# Altium integrated library TI Power Management Lighting and Display.IntLib: 745 symbols (part 12 of 48)
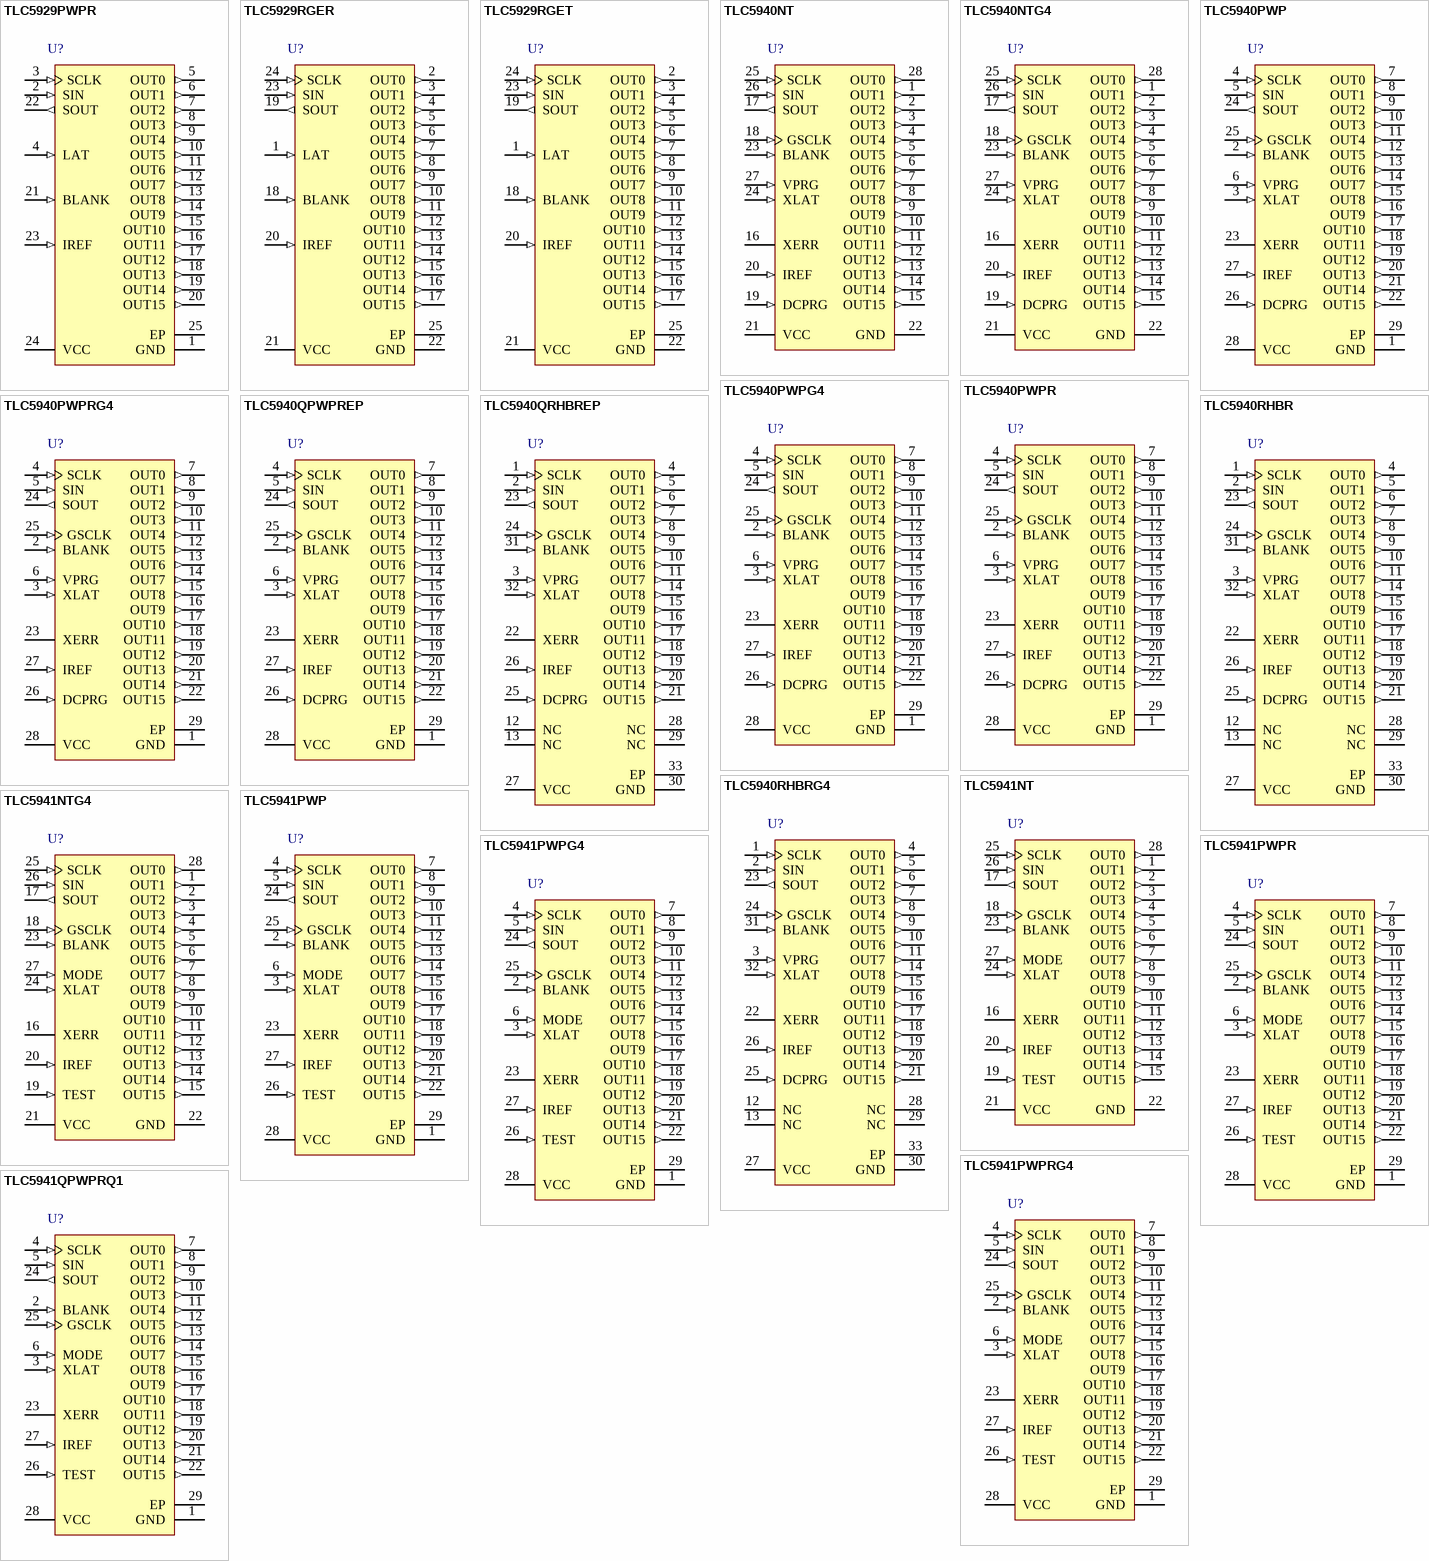
[diagram p42: symbols TLC5929PWPR to TLC5941QPWPRQ1]

## TLC5940QRHBREP
designator U?
Enhanced Product 16-Channel LED Driver with Dot Correction and Grayscale PWM Control, 3 to 5.5 V, -40 to 125 degC, 32-pin QFN (RHB32), Green (RoHS & no Sb/Br); Manufacturer: Texas Instruments; PartNumber: TLC5940QRHBREP; Rating: HiRel Enhanced Product; Vin(Max)(V): 5.5; Vin(Min)(V): 3; DatasheetVersion: SLVSA51D; PackageVersion: 4204326/D; PackageReference: RHB32-3150X3150TP; PackageDescription: 32-Pin Plastic Flat Pack, Body 5 x 5 mm, Pitch 0.5 mm; Supplier 1: Digi-Key; Supplier Part Number 1: 296-27434-2-ND; Supplier 2: Digi-Key; Supplier Part Number 2: 296-27434-1-ND; Supplier 3: Digi-Key; Supplier Part Number 3: 296-27434-6-ND; Supplier 4: Newark; Supplier Part Number 4: 79R8510; Supplier 5: Mouser; Supplier Part Number 5: 595-TLC5940QRHBREP; Eco-Plan: Green (RoHS & no Sb/Br); SubFamily: LED Driver; Mounting Technology: Surface Mount; Code_JEDEC: MO-220; ComponentLink1Description: Manufacturer URL; ComponentLink1URL: http://www.ti.com/; ComponentLink2Description: Datasheet; ComponentLink2URL: http://www.ti.com/general/docs/lit/getliterature.tsp?genericPartNumber=TLC5940-EP&fileType=pdf; ComponentLink3Description: Package Specification; ComponentLink3URL: http://www.ti.com/lit/ml/mpqf130c/mpqf130c.pdf
footprint TI-RHB32-3150X3150TP_V (QFN, 32-Leads, Body 5x5mm, Pitch 0.5mm, Thermal Pad 3.15x3.15mm)
pins: 1 SCLK (in) "Serial data shift clock", 2 SIN (in) "Serial data input", 3 VPRG (in) "Multifunction input pin. When VPRG = GND, the device is in GS mode. When VPRG = VCC, the device is in DC mode. When VPRG = V(VPRG), DC register data can programmed into DC EEPROM with DCPRG=HIGH. EEPROM data = 3Fh (default)", 4 OUT0 (out) "Constant current output", 5 OUT1 (out) "Constant current output", 6 OUT2 (out) "Constant current output", 7 OUT3 (out) "Constant current output", 8 OUT4 (out) "Constant current output", 9 OUT5 (out) "Constant current output", 10 OUT6 (out) "Constant current output", 11 OUT7 (out) "Constant current output", 12 NC "No connection", 13 NC "No connection", 14 OUT8 (out) "Constant current output", 15 OUT9 (out) "Constant current output", 16 OUT10 (out) "Constant current output", 17 OUT11 (out) "Constant current output", 18 OUT12 (out) "Constant current output", 19 OUT13 (out) "Constant current output", 20 OUT14 (out) "Constant current output", 21 OUT15 (out) "Constant current output", 22 XERR (hiz) "Error output. Open-drain output. XERR goes low when LOD or TEF is detected.", 23 SOUT (out) "Serial data output", 24 GSCLK (in) "Reference clock for Grayscale PWM control.", 25 DCPRG (in) "Switch DC data input. When DCPRG = L, DC is connected to EEPROM. When DCPRG = H, DC is connected to the DC register. DCPRG also controls EEPROM writing, when VPRG = V(PRG). EEPROM data = 3Fh (default)", 26 IREF (in) "This pin sets the constant current value. OUT0 through OUT15 sink constant current is set to desired value by connecting an external resistor between IREF and GND.", 27 VCC (power) "Power-supply voltage", 28 NC "No connection", 29 NC "No connection", 30 GND (power) "Ground", 31 BLANK (in) "Blank all outputs. When BLANK = H, all OUTn outputs are forced OFF. GS counter is also reset. When BLANK = L, OUTn are controlled by grayscale PWM control.", 32 XLAT (in) "Level triggered latch signal. When XLAT = high, the TLC5940 writes data from the input shift register to either GS register (VPRG = low) or DC register (VPRG = high). When XLAT = low, the data in GS or DC register is held (See Datasheet)", 33 EP

## TLC5940RHBR
designator U?
16-Channel LED Driver with EEprom DOT Correction & Grayscale PWM Control, 3 to 5.5 V, -40 to 85 degC, 32-pin QFN (RHB32), Green (RoHS & no Sb/Br); Manufacturer: Texas Instruments; PartNumber: TLC5940RHBR; Rating: Catalog; Vin(Max)(V): 5.5; Vin(Min)(V): 3; DatasheetVersion: SLVS515C; PackageVersion: 4204326/D; PackageReference: RHB32-3150X3150TP; PackageDescription: 32-Pin Plastic Flat Pack, Body 5 x 5 mm, Pitch 0.5 mm; Supplier 1: Digi-Key; Supplier Part Number 1: 296-21251-2-ND; Supplier 2: Digi-Key; Supplier Part Number 2: 296-21251-1-ND; Supplier 3: Digi-Key; Supplier Part Number 3: 296-21251-6-ND; Supplier 4: Newark; Supplier Part Number 4: 52K5899; Supplier 5: Mouser; Supplier Part Number 5: 595-TLC5940RHBR; Eco-Plan: Green (RoHS & no Sb/Br); SubFamily: LED Driver; Mounting Technology: Surface Mount; Code_JEDEC: MO-220; ComponentLink1Description: Manufacturer URL; ComponentLink1URL: http://www.ti.com/; ComponentLink2Description: Datasheet; ComponentLink2URL: http://www.ti.com/general/docs/lit/getliterature.tsp?genericPartNumber=TLC5940&fileType=pdf; ComponentLink3Description: Package Specification; ComponentLink3URL: http://www.ti.com/lit/ml/mpqf130c/mpqf130c.pdf
footprint TI-RHB32-3150X3150TP_V (QFN, 32-Leads, Body 5x5mm, Pitch 0.5mm, Thermal Pad 3.15x3.15mm)
pins: 1 SCLK (in) "Serial data shift clock", 2 SIN (in) "Serial data input", 3 VPRG (in) "Multifunction input pin. When VPRG = GND, the device is in GS mode. When VPRG = VCC, the device is in DC mode. When VPRG = V(VPRG), DC register data can programmed into DC EEPROM with DCPRG=HIGH. EEPROM data = 3Fh (default)", 4 OUT0 (out) "Constant current output", 5 OUT1 (out) "Constant current output", 6 OUT2 (out) "Constant current output", 7 OUT3 (out) "Constant current output", 8 OUT4 (out) "Constant current output", 9 OUT5 (out) "Constant current output", 10 OUT6 (out) "Constant current output", 11 OUT7 (out) "Constant current output", 12 NC "No connection", 13 NC "No connection", 14 OUT8 (out) "Constant current output", 15 OUT9 (out) "Constant current output", 16 OUT10 (out) "Constant current output", 17 OUT11 (out) "Constant current output", 18 OUT12 (out) "Constant current output", 19 OUT13 (out) "Constant current output", 20 OUT14 (out) "Constant current output", 21 OUT15 (out) "Constant current output", 22 XERR (hiz) "Error output. Open-drain output. XERR goes low when LOD or TEF is detected.", 23 SOUT (out) "Serial data output", 24 GSCLK (in) "Reference clock for Grayscale PWM control.", 25 DCPRG (in) "Switch DC data input. When DCPRG = L, DC is connected to EEPROM. When DCPRG = H, DC is connected to the DC register. DCPRG also controls EEPROM writing, when VPRG = V(PRG). EEPROM data = 3Fh (default)", 26 IREF (in) "This pin sets the constant current value. OUT0 through OUT15 sink constant current is set to desired value by connecting an external resistor between IREF and GND.", 27 VCC (power) "Power-supply voltage", 28 NC "No connection", 29 NC "No connection", 30 GND (power) "Ground", 31 BLANK (in) "Blank all outputs. When BLANK = H, all OUTn outputs are forced OFF. GS counter is also reset. When BLANK = L, OUTn are controlled by grayscale PWM control.", 32 XLAT (in) "Level triggered latch signal. When XLAT = high, the TLC5940 writes data from the input shift register to either GS register (VPRG = low) or DC register (VPRG = high). When XLAT = low, the data in GS or DC register is held (See Datasheet)", 33 EP

## TLC5940RHBRG4
designator U?
16-Channel LED Driver with EEprom DOT Correction & Grayscale PWM Control, 3 to 5.5 V, -40 to 85 degC, 32-pin QFN (RHB32), Green (RoHS & no Sb/Br); Manufacturer: Texas Instruments; PartNumber: TLC5940RHBRG4; Rating: Catalog; Vin(Max)(V): 5.5; Vin(Min)(V): 3; DatasheetVersion: SLVS515C; PackageVersion: 4204326/D; PackageReference: RHB32-3150X3150TP; PackageDescription: 32-Pin Plastic Flat Pack, Body 5 x 5 mm, Pitch 0.5 mm; Supplier 1: Digi-Key; Supplier Part Number 1: TLC5940RHBRG4-ND; Supplier 2: Newark; Supplier Part Number 2: 54K1023; Supplier 3: Mouser; Supplier Part Number 3: 595-TLC5940RHBRG4; Eco-Plan: Green (RoHS & no Sb/Br); SubFamily: LED Driver; Mounting Technology: Surface Mount; Code_JEDEC: MO-220; ComponentLink1Description: Manufacturer URL; ComponentLink1URL: http://www.ti.com/; ComponentLink2Description: Datasheet; ComponentLink2URL: http://www.ti.com/general/docs/lit/getliterature.tsp?genericPartNumber=TLC5940&fileType=pdf; ComponentLink3Description: Package Specification; ComponentLink3URL: http://www.ti.com/lit/ml/mpqf130c/mpqf130c.pdf
footprint TI-RHB32-3150X3150TP_V (QFN, 32-Leads, Body 5x5mm, Pitch 0.5mm, Thermal Pad 3.15x3.15mm)
pins: 1 SCLK (in) "Serial data shift clock", 2 SIN (in) "Serial data input", 3 VPRG (in) "Multifunction input pin. When VPRG = GND, the device is in GS mode. When VPRG = VCC, the device is in DC mode. When VPRG = V(VPRG), DC register data can programmed into DC EEPROM with DCPRG=HIGH. EEPROM data = 3Fh (default)", 4 OUT0 (out) "Constant current output", 5 OUT1 (out) "Constant current output", 6 OUT2 (out) "Constant current output", 7 OUT3 (out) "Constant current output", 8 OUT4 (out) "Constant current output", 9 OUT5 (out) "Constant current output", 10 OUT6 (out) "Constant current output", 11 OUT7 (out) "Constant current output", 12 NC "No connection", 13 NC "No connection", 14 OUT8 (out) "Constant current output", 15 OUT9 (out) "Constant current output", 16 OUT10 (out) "Constant current output", 17 OUT11 (out) "Constant current output", 18 OUT12 (out) "Constant current output", 19 OUT13 (out) "Constant current output", 20 OUT14 (out) "Constant current output", 21 OUT15 (out) "Constant current output", 22 XERR (hiz) "Error output. Open-drain output. XERR goes low when LOD or TEF is detected.", 23 SOUT (out) "Serial data output", 24 GSCLK (in) "Reference clock for Grayscale PWM control.", 25 DCPRG (in) "Switch DC data input. When DCPRG = L, DC is connected to EEPROM. When DCPRG = H, DC is connected to the DC register. DCPRG also controls EEPROM writing, when VPRG = V(PRG). EEPROM data = 3Fh (default)", 26 IREF (in) "This pin sets the constant current value. OUT0 through OUT15 sink constant current is set to desired value by connecting an external resistor between IREF and GND.", 27 VCC (power) "Power-supply voltage", 28 NC "No connection", 29 NC "No connection", 30 GND (power) "Ground", 31 BLANK (in) "Blank all outputs. When BLANK = H, all OUTn outputs are forced OFF. GS counter is also reset. When BLANK = L, OUTn are controlled by grayscale PWM control.", 32 XLAT (in) "Level triggered latch signal. When XLAT = high, the TLC5940 writes data from the input shift register to either GS register (VPRG = low) or DC register (VPRG = high). When XLAT = low, the data in GS or DC register is held (See Datasheet)", 33 EP

## TLC5941NT
designator U?
16-Channel LED Driver with DOT Correction and Grayscale PWM Control, 3 to 5.5 V, -40 to 85 degC, 28-pin DIP (NT28), Green (RoHS & no Sb/Br); Manufacturer: Texas Instruments; PartNumber: TLC5941NT; Rating: Catalog; Vin(Max)(V): 5.5; Vin(Min)(V): 3; DatasheetVersion: SLVS589D; PackageVersion: 4040050/C; PackageReference: NT28; PackageDescription: 28-Lead, Plastic In-Line, Body Size 35.69 x 6.73 mm, Pitch 2.54 mm; Supplier 1: Digi-Key; Supplier Part Number 1: 296-34378-5-ND; Supplier 2: Newark; Supplier Part Number 2: 63K6483; Supplier 3: Mouser; Supplier Part Number 3: 595-TLC5941NT; Eco-Plan: Green (RoHS & no Sb/Br); SubFamily: LED Driver; Mounting Technology: Through Hole; ComponentLink1Description: Manufacturer URL; ComponentLink1URL: http://www.ti.com/; ComponentLink2Description: Datasheet; ComponentLink2URL: http://www.ti.com/general/docs/lit/getliterature.tsp?genericPartNumber=TLC5941&fileType=pdf; ComponentLink3Description: Package Specification; ComponentLink3URL: http://www.ti.com/lit/ml/mpdi004a/mpdi004a.pdf
footprint TI-NT28 (DIP, 28-Leads, Body 35.69x6.73mm, Pitch 2.54mm)
pins: 1 OUT1 (out) "Constant-current output", 2 OUT2 (out) "Constant-current output", 3 OUT3 (out) "Constant-current output", 4 OUT4 (out) "Constant-current output", 5 OUT5 (out) "Constant-current output", 6 OUT6 (out) "Constant-current output", 7 OUT7 (out) "Constant-current output", 8 OUT8 (out) "Constant-current output", 9 OUT9 (out) "Constant-current output", 10 OUT10 (out) "Constant-current output", 11 OUT11 (out) "Constant-current output", 12 OUT12 (out) "Constant-current output", 13 OUT13 (out) "Constant-current output", 14 OUT14 (out) "Constant-current output", 15 OUT15 (out) "Constant-current output", 16 XERR (hiz) "Error output. XERR is an open-drain terminal. XERR goes L when LOD or TEF is detected.", 17 SOUT (out) "Serial data output", 18 GSCLK (in) "Reference clock for grayscale PWM control", 19 TEST (in) "Test pin: TEST must be connected to VCC.", 20 IREF (in) "Reference current terminal", 21 VCC (power) "Power supply voltage.", 22 GND (power) "Ground", 23 BLANK (in) "Blank all outputs. When BLANK = H, all OUTn outputs are forced OFF. GS counter is also reset. When BLANK = L, OUTn are controlled by grayscale PWM control.", 24 XLAT (in) "Level triggered latch signal. When XLAT = high, the TLC5941 writes data from the input shift register to either GS register (MODE = low) or DC register (MODE = high). When XLAT=low, the data in the GS or DC registers is held (See Datasheet)", 25 SCLK (in) "Serial data shift clock", 26 SIN (in) "Serial data input", 27 MODE (in) "Input mode-change pin. When MODE = GND, the device is in GS mode. When MODE = VCC, the device is in DC mode.", 28 OUT0 (out) "Constant-current output"

## TLC5941NTG4
designator U?
16-Channel LED Driver with DOT Correction and Grayscale PWM Control, 3 to 5.5 V, -40 to 85 degC, 28-pin DIP (NT28), Green (RoHS & no Sb/Br); Manufacturer: Texas Instruments; PartNumber: TLC5941NTG4; Rating: Catalog; Vin(Max)(V): 5.5; Vin(Min)(V): 3; DatasheetVersion: SLVS589D; PackageVersion: 4040050/C; PackageReference: NT28; PackageDescription: 28-Lead, Plastic In-Line, Body Size 35.69 x 6.73 mm, Pitch 2.54 mm; Supplier 1: Digi-Key; Supplier Part Number 1: TLC5941NTG4-ND; Supplier 2: Mouser; Supplier Part Number 2: 595-TLC5941NTG4; Eco-Plan: Green (RoHS & no Sb/Br); SubFamily: LED Driver; Mounting Technology: Through Hole; ComponentLink1Description: Manufacturer URL; ComponentLink1URL: http://www.ti.com/; ComponentLink2Description: Datasheet; ComponentLink2URL: http://www.ti.com/general/docs/lit/getliterature.tsp?genericPartNumber=TLC5941&fileType=pdf; ComponentLink3Description: Package Specification; ComponentLink3URL: http://www.ti.com/lit/ml/mpdi004a/mpdi004a.pdf
footprint TI-NT28 (DIP, 28-Leads, Body 35.69x6.73mm, Pitch 2.54mm)
pins: 1 OUT1 (out) "Constant-current output", 2 OUT2 (out) "Constant-current output", 3 OUT3 (out) "Constant-current output", 4 OUT4 (out) "Constant-current output", 5 OUT5 (out) "Constant-current output", 6 OUT6 (out) "Constant-current output", 7 OUT7 (out) "Constant-current output", 8 OUT8 (out) "Constant-current output", 9 OUT9 (out) "Constant-current output", 10 OUT10 (out) "Constant-current output", 11 OUT11 (out) "Constant-current output", 12 OUT12 (out) "Constant-current output", 13 OUT13 (out) "Constant-current output", 14 OUT14 (out) "Constant-current output", 15 OUT15 (out) "Constant-current output", 16 XERR (hiz) "Error output. XERR is an open-drain terminal. XERR goes L when LOD or TEF is detected.", 17 SOUT (out) "Serial data output", 18 GSCLK (in) "Reference clock for grayscale PWM control", 19 TEST (in) "Test pin: TEST must be connected to VCC.", 20 IREF (in) "Reference current terminal", 21 VCC (power) "Power supply voltage.", 22 GND (power) "Ground", 23 BLANK (in) "Blank all outputs. When BLANK = H, all OUTn outputs are forced OFF. GS counter is also reset. When BLANK = L, OUTn are controlled by grayscale PWM control.", 24 XLAT (in) "Level triggered latch signal. When XLAT = high, the TLC5941 writes data from the input shift register to either GS register (MODE = low) or DC register (MODE = high). When XLAT=low, the data in the GS or DC registers is held (See Datasheet)", 25 SCLK (in) "Serial data shift clock", 26 SIN (in) "Serial data input", 27 MODE (in) "Input mode-change pin. When MODE = GND, the device is in GS mode. When MODE = VCC, the device is in DC mode.", 28 OUT0 (out) "Constant-current output"

## TLC5941PWP
designator U?
16-Channel LED Driver with DOT Correction and Grayscale PWM Control, 3 to 5.5 V, -40 to 85 degC, 28-pin SOP (PWP28), Green (RoHS & no Sb/Br); Manufacturer: Texas Instruments; PartNumber: TLC5941PWP; Rating: Catalog; Vin(Max)(V): 5.5; Vin(Min)(V): 3; DatasheetVersion: SLVS589D; PackageVersion: 4073225-6/I; PackageReference: PWP28-5720X1950TP; PackageDescription: 28-Pin Plastic Small Outline, Body 4.4 x 9.7 mm, Pitch 0.65 mm; Supplier 1: Digi-Key; Supplier Part Number 1: 296-18617-5-ND; Supplier 2: Newark; Supplier Part Number 2: 58K6744; Supplier 3: Mouser; Supplier Part Number 3: 595-TLC5941PWP; Eco-Plan: Green (RoHS & no Sb/Br); SubFamily: LED Driver; Mounting Technology: Surface Mount; Code_JEDEC: MO-153; ComponentLink1Description: Manufacturer URL; ComponentLink1URL: http://www.ti.com/; ComponentLink2Description: Datasheet; ComponentLink2URL: http://www.ti.com/general/docs/lit/getliterature.tsp?genericPartNumber=TLC5941&fileType=pdf; ComponentLink3Description: Package Specification; ComponentLink3URL: http://www.ti.com/litv/pdf/mpds373
footprint TI-PWP28-5720X1950TP_N (SOP, 28-Leads, Body 9.7x4.4mm, Pitch 0.65mm, Thermal Pad 5.72 x 1.95mm, IPC Medium Density)
footprint TI-PWP28-5720X1950TP_L (SOP, 28-Leads, Body 9.7x4.4mm, Pitch 0.65mm, Thermal Pad 5.72 x 1.95mm, IPC High Density)
footprint TI-PWP28-5720X1950TP_M (SOP, 28-Leads, Body 9.7x4.4mm, Pitch 0.65mm, Thermal Pad 5.72 x 1.95mm, IPC Low Density)
pins: 1 GND (power) "Ground", 2 BLANK (in) "Blank all outputs. When BLANK = H, all OUTn outputs are forced OFF. GS counter is also reset. When BLANK = L, OUTn are controlled by grayscale PWM control.", 3 XLAT (in) "Level triggered latch signal. When XLAT = high, the TLC5941 writes data from the input shift register to either GS register (MODE = low) or DC register (MODE = high). When XLAT=low, the data in the GS or DC registers is held (See Datasheet)", 4 SCLK (in) "Serial data shift clock", 5 SIN (in) "Serial data input", 6 MODE (in) "Input mode-change pin. When MODE = GND, the device is in GS mode. When MODE = VCC, the device is in DC mode", 7 OUT0 (out) "Constant-current output", 8 OUT1 (out) "Constant-current output", 9 OUT2 (out) "Constant-current output", 10 OUT3 (out) "Constant-current output", 11 OUT4 (out) "Constant-current output", 12 OUT5 (out) "Constant-current output", 13 OUT6 (out) "Constant-current output", 14 OUT7 (out) "Constant-current output", 15 OUT8 (out) "Constant-current output", 16 OUT9 (out) "Constant-current output", 17 OUT10 (out) "Constant-current output", 18 OUT11 (out) "Constant-current output", 19 OUT12 (out) "Constant-current output", 20 OUT13 (out) "Constant-current output", 21 OUT14 (out) "Constant-current output", 22 OUT15 (out) "Constant-current output", 23 XERR (hiz) "Error output. XERR is an open-drain terminal. XERR goes L when LOD or TEF is detected", 24 SOUT (out) "Serial data output", 25 GSCLK (in) "Reference clock for grayscale PWM control", 26 TEST (in) "Test pin: TEST must be connected to VCC.", 27 IREF (in) "Reference current terminal", 28 VCC (power) "Power supply voltage.", 29 EP (power) "Example Solder Mask Defined Pad"

## TLC5941PWPG4
designator U?
16-Channel LED Driver with DOT Correction and Grayscale PWM Control, 3 to 5.5 V, -40 to 85 degC, 28-pin SOP (PWP28), Green (RoHS & no Sb/Br); Manufacturer: Texas Instruments; PartNumber: TLC5941PWPG4; Rating: Catalog; Vin(Max)(V): 5.5; Vin(Min)(V): 3; DatasheetVersion: SLVS589D; PackageVersion: 4073225-6/I; PackageReference: PWP28-5720X1950TP; PackageDescription: 28-Pin Plastic Small Outline, Body 4.4 x 9.7 mm, Pitch 0.65 mm; Supplier 1: Digi-Key; Supplier Part Number 1: TLC5941PWPG4-ND; Supplier 2: Farnell; Supplier Part Number 2: 1226308; Supplier 3: Mouser; Supplier Part Number 3: 595-TLC5941PWPG4; Eco-Plan: Green (RoHS & no Sb/Br); SubFamily: LED Driver; Mounting Technology: Surface Mount; Code_JEDEC: MO-153; ComponentLink1Description: Manufacturer URL; ComponentLink1URL: http://www.ti.com/; ComponentLink2Description: Datasheet; ComponentLink2URL: http://www.ti.com/general/docs/lit/getliterature.tsp?genericPartNumber=TLC5941&fileType=pdf; ComponentLink3Description: Package Specification; ComponentLink3URL: http://www.ti.com/litv/pdf/mpds373
footprint TI-PWP28-5720X1950TP_N (SOP, 28-Leads, Body 9.7x4.4mm, Pitch 0.65mm, Thermal Pad 5.72 x 1.95mm, IPC Medium Density)
footprint TI-PWP28-5720X1950TP_L (SOP, 28-Leads, Body 9.7x4.4mm, Pitch 0.65mm, Thermal Pad 5.72 x 1.95mm, IPC High Density)
footprint TI-PWP28-5720X1950TP_M (SOP, 28-Leads, Body 9.7x4.4mm, Pitch 0.65mm, Thermal Pad 5.72 x 1.95mm, IPC Low Density)
pins: 1 GND (power) "Ground", 2 BLANK (in) "Blank all outputs. When BLANK = H, all OUTn outputs are forced OFF. GS counter is also reset. When BLANK = L, OUTn are controlled by grayscale PWM control.", 3 XLAT (in) "Level triggered latch signal. When XLAT = high, the TLC5941 writes data from the input shift register to either GS register (MODE = low) or DC register (MODE = high). When XLAT=low, the data in the GS or DC registers is held (See Datasheet)", 4 SCLK (in) "Serial data shift clock", 5 SIN (in) "Serial data input", 6 MODE (in) "Input mode-change pin. When MODE = GND, the device is in GS mode. When MODE = VCC, the device is in DC mode", 7 OUT0 (out) "Constant-current output", 8 OUT1 (out) "Constant-current output", 9 OUT2 (out) "Constant-current output", 10 OUT3 (out) "Constant-current output", 11 OUT4 (out) "Constant-current output", 12 OUT5 (out) "Constant-current output", 13 OUT6 (out) "Constant-current output", 14 OUT7 (out) "Constant-current output", 15 OUT8 (out) "Constant-current output", 16 OUT9 (out) "Constant-current output", 17 OUT10 (out) "Constant-current output", 18 OUT11 (out) "Constant-current output", 19 OUT12 (out) "Constant-current output", 20 OUT13 (out) "Constant-current output", 21 OUT14 (out) "Constant-current output", 22 OUT15 (out) "Constant-current output", 23 XERR (hiz) "Error output. XERR is an open-drain terminal. XERR goes L when LOD or TEF is detected", 24 SOUT (out) "Serial data output", 25 GSCLK (in) "Reference clock for grayscale PWM control", 26 TEST (in) "Test pin: TEST must be connected to VCC.", 27 IREF (in) "Reference current terminal", 28 VCC (power) "Power supply voltage.", 29 EP (power) "Example Solder Mask Defined Pad"

## TLC5941PWPR
designator U?
16-Channel LED Driver with DOT Correction and Grayscale PWM Control, 3 to 5.5 V, -40 to 85 degC, 28-pin SOP (PWP28), Green (RoHS & no Sb/Br); Manufacturer: Texas Instruments; PartNumber: TLC5941PWPR; Rating: Catalog; Vin(Max)(V): 5.5; Vin(Min)(V): 3; DatasheetVersion: SLVS589D; PackageVersion: 4073225-6/I; PackageReference: PWP28-5720X1950TP; PackageDescription: 28-Pin Plastic Small Outline, Body 4.4 x 9.7 mm, Pitch 0.65 mm; Supplier 1: Digi-Key; Supplier Part Number 1: TLC5941PWPR-ND; Supplier 2: Newark; Supplier Part Number 2: 58K6745; Supplier 3: Mouser; Supplier Part Number 3: 595-TLC5941PWPR; Eco-Plan: Green (RoHS & no Sb/Br); SubFamily: LED Driver; Mounting Technology: Surface Mount; Code_JEDEC: MO-153; ComponentLink1Description: Manufacturer URL; ComponentLink1URL: http://www.ti.com/; ComponentLink2Description: Datasheet; ComponentLink2URL: http://www.ti.com/general/docs/lit/getliterature.tsp?genericPartNumber=TLC5941&fileType=pdf; ComponentLink3Description: Package Specification; ComponentLink3URL: http://www.ti.com/litv/pdf/mpds373
footprint TI-PWP28-5720X1950TP_N (SOP, 28-Leads, Body 9.7x4.4mm, Pitch 0.65mm, Thermal Pad 5.72 x 1.95mm, IPC Medium Density)
footprint TI-PWP28-5720X1950TP_L (SOP, 28-Leads, Body 9.7x4.4mm, Pitch 0.65mm, Thermal Pad 5.72 x 1.95mm, IPC High Density)
footprint TI-PWP28-5720X1950TP_M (SOP, 28-Leads, Body 9.7x4.4mm, Pitch 0.65mm, Thermal Pad 5.72 x 1.95mm, IPC Low Density)
pins: 1 GND (power) "Ground", 2 BLANK (in) "Blank all outputs. When BLANK = H, all OUTn outputs are forced OFF. GS counter is also reset. When BLANK = L, OUTn are controlled by grayscale PWM control.", 3 XLAT (in) "Level triggered latch signal. When XLAT = high, the TLC5941 writes data from the input shift register to either GS register (MODE = low) or DC register (MODE = high). When XLAT=low, the data in the GS or DC registers is held (See Datasheet)", 4 SCLK (in) "Serial data shift clock", 5 SIN (in) "Serial data input", 6 MODE (in) "Input mode-change pin. When MODE = GND, the device is in GS mode. When MODE = VCC, the device is in DC mode", 7 OUT0 (out) "Constant-current output", 8 OUT1 (out) "Constant-current output", 9 OUT2 (out) "Constant-current output", 10 OUT3 (out) "Constant-current output", 11 OUT4 (out) "Constant-current output", 12 OUT5 (out) "Constant-current output", 13 OUT6 (out) "Constant-current output", 14 OUT7 (out) "Constant-current output", 15 OUT8 (out) "Constant-current output", 16 OUT9 (out) "Constant-current output", 17 OUT10 (out) "Constant-current output", 18 OUT11 (out) "Constant-current output", 19 OUT12 (out) "Constant-current output", 20 OUT13 (out) "Constant-current output", 21 OUT14 (out) "Constant-current output", 22 OUT15 (out) "Constant-current output", 23 XERR (hiz) "Error output. XERR is an open-drain terminal. XERR goes L when LOD or TEF is detected", 24 SOUT (out) "Serial data output", 25 GSCLK (in) "Reference clock for grayscale PWM control", 26 TEST (in) "Test pin: TEST must be connected to VCC.", 27 IREF (in) "Reference current terminal", 28 VCC (power) "Power supply voltage.", 29 EP (power) "Example Solder Mask Defined Pad"

## TLC5941PWPRG4
designator U?
16-Channel LED Driver with DOT Correction and Grayscale PWM Control, 3 to 5.5 V, -40 to 85 degC, 28-pin SOP (PWP28), Green (RoHS & no Sb/Br); Manufacturer: Texas Instruments; PartNumber: TLC5941PWPRG4; Rating: Catalog; Vin(Max)(V): 5.5; Vin(Min)(V): 3; DatasheetVersion: SLVS589D; PackageVersion: 4073225-6/I; PackageReference: PWP28-5720X1950TP; PackageDescription: 28-Pin Plastic Small Outline, Body 4.4 x 9.7 mm, Pitch 0.65 mm; Supplier 1: Digi-Key; Supplier Part Number 1: TLC5941PWPRG4-ND; Supplier 2: Mouser; Supplier Part Number 2: 595-TLC5941PWPRG4; Eco-Plan: Green (RoHS & no Sb/Br); SubFamily: LED Driver; Mounting Technology: Surface Mount; Code_JEDEC: MO-153; ComponentLink1Description: Manufacturer URL; ComponentLink1URL: http://www.ti.com/; ComponentLink2Description: Datasheet; ComponentLink2URL: http://www.ti.com/general/docs/lit/getliterature.tsp?genericPartNumber=TLC5941&fileType=pdf; ComponentLink3Description: Package Specification; ComponentLink3URL: http://www.ti.com/litv/pdf/mpds373
footprint TI-PWP28-5720X1950TP_N (SOP, 28-Leads, Body 9.7x4.4mm, Pitch 0.65mm, Thermal Pad 5.72 x 1.95mm, IPC Medium Density)
footprint TI-PWP28-5720X1950TP_L (SOP, 28-Leads, Body 9.7x4.4mm, Pitch 0.65mm, Thermal Pad 5.72 x 1.95mm, IPC High Density)
footprint TI-PWP28-5720X1950TP_M (SOP, 28-Leads, Body 9.7x4.4mm, Pitch 0.65mm, Thermal Pad 5.72 x 1.95mm, IPC Low Density)
pins: 1 GND (power) "Ground", 2 BLANK (in) "Blank all outputs. When BLANK = H, all OUTn outputs are forced OFF. GS counter is also reset. When BLANK = L, OUTn are controlled by grayscale PWM control.", 3 XLAT (in) "Level triggered latch signal. When XLAT = high, the TLC5941 writes data from the input shift register to either GS register (MODE = low) or DC register (MODE = high). When XLAT=low, the data in the GS or DC registers is held (See Datasheet)", 4 SCLK (in) "Serial data shift clock", 5 SIN (in) "Serial data input", 6 MODE (in) "Input mode-change pin. When MODE = GND, the device is in GS mode. When MODE = VCC, the device is in DC mode", 7 OUT0 (out) "Constant-current output", 8 OUT1 (out) "Constant-current output", 9 OUT2 (out) "Constant-current output", 10 OUT3 (out) "Constant-current output", 11 OUT4 (out) "Constant-current output", 12 OUT5 (out) "Constant-current output", 13 OUT6 (out) "Constant-current output", 14 OUT7 (out) "Constant-current output", 15 OUT8 (out) "Constant-current output", 16 OUT9 (out) "Constant-current output", 17 OUT10 (out) "Constant-current output", 18 OUT11 (out) "Constant-current output", 19 OUT12 (out) "Constant-current output", 20 OUT13 (out) "Constant-current output", 21 OUT14 (out) "Constant-current output", 22 OUT15 (out) "Constant-current output", 23 XERR (hiz) "Error output. XERR is an open-drain terminal. XERR goes L when LOD or TEF is detected", 24 SOUT (out) "Serial data output", 25 GSCLK (in) "Reference clock for grayscale PWM control", 26 TEST (in) "Test pin: TEST must be connected to VCC.", 27 IREF (in) "Reference current terminal", 28 VCC (power) "Power supply voltage.", 29 EP (power) "Example Solder Mask Defined Pad"

## TLC5941QPWPRQ1
designator U?
Automotive Catalog 16-Channel LED Driver with DOT Correction and Grayscale PWM Control, 3 to 5.5 V, -40 to 125 degC, 28-pin SOP (PWP28), Green (RoHS & no Sb/Br); Manufacturer: Texas Instruments; PartNumber: TLC5941QPWPRQ1; Vin(Max)(V): 5.5; Vin(Min)(V): 3; DatasheetVersion: SLDS165; PackageVersion: 4073225-6/I; PackageReference: PWP28; PackageDescription: 28-Lead, Plastic Small Outline, Body Size 4.4 x 9.7 mm, Pitch 0.65 mm; Supplier 1: Digi-Key; Supplier Part Number 1: 296-24223-2-ND; Supplier 2: Digi-Key; Supplier Part Number 2: 296-24223-1-ND; Supplier 3: Digi-Key; Supplier Part Number 3: 296-24223-6-ND; Supplier 4: Mouser; Supplier Part Number 4: 595-TLC5941QPWPRQ1; Eco-Plan: Green (RoHS & no Sb/Br); Rating: Automotive; SubFamily: LED Driver; Mounting Technology: Surface Mount; Code_JEDEC: MO-153; ComponentLink1Description: Manufacturer URL; ComponentLink1URL: http://www.ti.com/; ComponentLink2Description: Datasheet; ComponentLink2URL: http://www.ti.com/general/docs/lit/getliterature.tsp?genericPartNumber=TLC5941-Q1&fileType=pdf; ComponentLink3Description: Package Specification; ComponentLink3URL: http://www.ti.com/lit/ds/symlink/tlc5941-q1.pdf
footprint TI-PWP28-5865X1920TP_N (SOP, 28-Leads, Body 9.7x4.4mm, Pitch 0.65mm, Thermal Pad 5.865x1.92mm, IPC Medium Density)
footprint TI-PWP28-5865X1920TP_L (SOP, 28-Leads, Body 9.7x4.4mm, Pitch 0.65mm, Thermal Pad 5.865x1.92mm, IPC High Density)
footprint TI-PWP28-5865X1920TP_M (SOP, 28-Leads, Body 9.7x4.4mm, Pitch 0.65mm, Thermal Pad 5.865x1.92mm, IPC Low Density)
pins: 1 GND (power) "Ground", 2 BLANK (in) "Blank all outputs. When BLANK is high, all OUTn outputs are forced OFF. GS counter is also reset. When BLANK is low, OUTn are controlled by the grayscale PWM control.", 3 XLAT (in) "Level triggered latch signal. When XLAT is high, the TLC59401 writes data from the input shift register to either GS register (MODE is low) or DC register (MODE is high). When XLAT is low, the data in the GS or DC registers (See Datasheet)", 4 SCLK (in) "Serial data shift clock", 5 SIN (in) "Serial data input", 6 MODE (in) "Input mode-change pin. When MODE = GND, the device is in GS mode. When MODE = VCC, the device is in DC mode.", 7 OUT0 (out) "Constant-current output. Multiple outputs can be configured in parallel to increase the constant-current capability. Different voltages can be applied to each output.", 8 OUT1 (out) "Constant-current output", 9 OUT2 (out) "Constant-current output", 10 OUT3 (out) "Constant-current output", 11 OUT4 (out) "Constant-current output", 12 OUT5 (out) "Constant-current output", 13 OUT6 (out) "Constant-current output", 14 OUT7 (out) "Constant-current output", 15 OUT8 (out) "Constant-current output", 16 OUT9 (out) "Constant-current output", 17 OUT10 (out) "Constant-current output", 18 OUT11 (out) "Constant-current output", 19 OUT12 (out) "Constant-current output", 20 OUT13 (out) "Constant-current output", 21 OUT14 (out) "Constant-current output", 22 OUT15 (out) "Constant-current output", 23 XERR (hiz) "Error output. XERR is an open-drain terminal. XERR goes low when LOD or TEF is detected.", 24 SOUT (out) "Serial data output", 25 GSCLK (in) "Reference clock for grayscale PWM control", 26 TEST (in) "Test pin: TEST must be connected to VCC", 27 IREF (in) "Reference current terminal. The maximum current for the outputs OUT0-OUT15 is set with a resistor from IREF to GND. Any capacitance does not need to be connected between IREF and GND.", 28 VCC (power) "Power-supply voltage", 29 EP

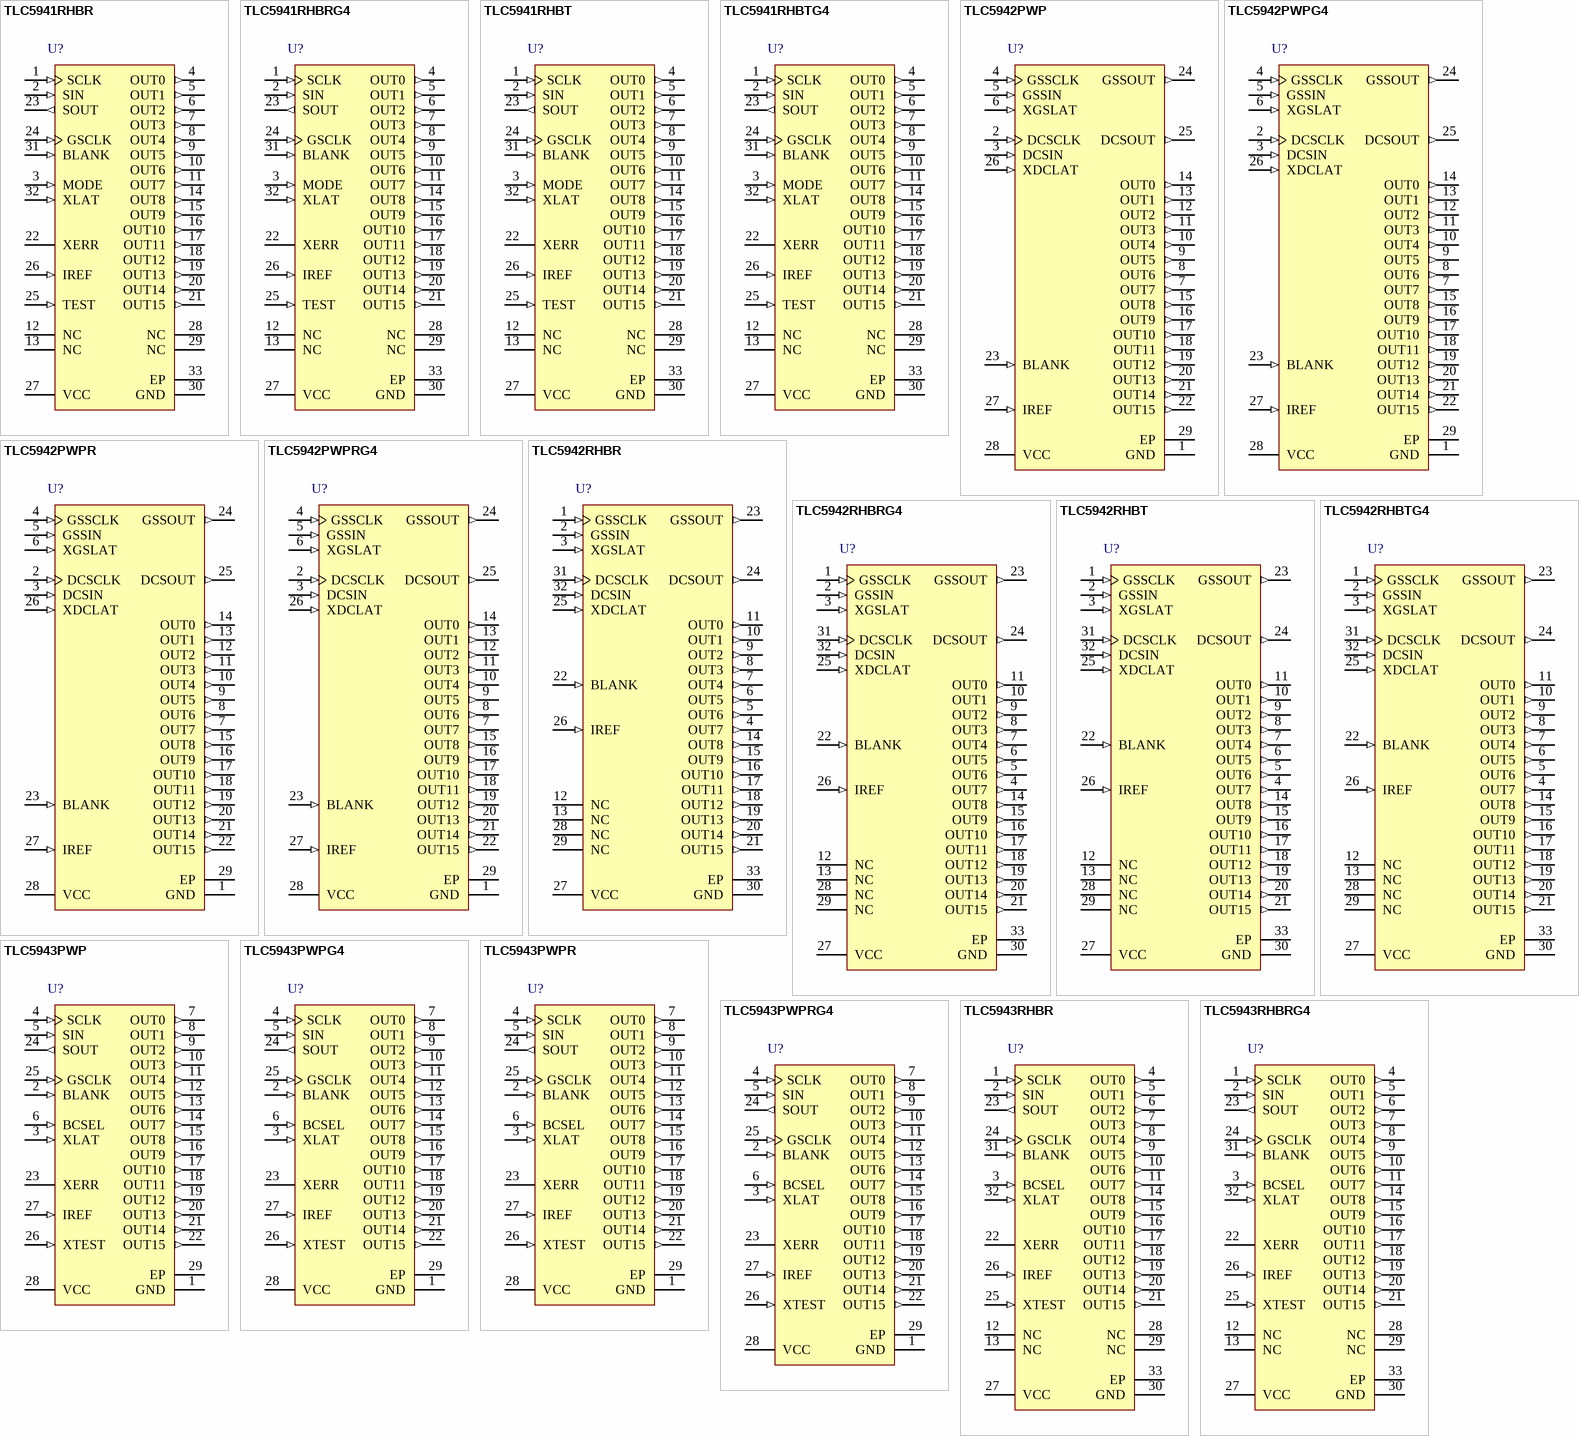
[diagram p9: symbols TLC5941RHBR to TLC5943RHBRG4]

## TLC5941RHBR
designator U?
16-Channel LED Driver with DOT Correction and Grayscale PWM Control, 3 to 5.5 V, -40 to 85 degC, 32-pin QFN (RHB32), Green (RoHS & no Sb/Br); Manufacturer: Texas Instruments; PartNumber: TLC5941RHBR; Rating: Catalog; Vin(Max)(V): 5.5; Vin(Min)(V): 3; DatasheetVersion: SLVS589D; PackageVersion: 4204326/D; PackageReference: RHB32-3150X3150TP; PackageDescription: 32-Pin Plastic Flat Pack, Body 5 x 5 mm, Pitch 0.5 mm; Supplier 1: Digi-Key; Supplier Part Number 1: TLC5941RHBR-ND; Supplier 2: Newark; Supplier Part Number 2: 58K6746; Supplier 3: Mouser; Supplier Part Number 3: 595-TLC5941RHBR; Eco-Plan: Green (RoHS & no Sb/Br); SubFamily: LED Driver; Mounting Technology: Surface Mount; Code_JEDEC: MO-220; ComponentLink1Description: Manufacturer URL; ComponentLink1URL: http://www.ti.com/; ComponentLink2Description: Datasheet; ComponentLink2URL: http://www.ti.com/general/docs/lit/getliterature.tsp?genericPartNumber=TLC5941&fileType=pdf; ComponentLink3Description: Package Specification; ComponentLink3URL: http://www.ti.com/lit/ml/mpqf130c/mpqf130c.pdf
footprint TI-RHB32-3150X3150TP_V (QFN, 32-Leads, Body 5x5mm, Pitch 0.5mm, Thermal Pad 3.15x3.15mm)
pins: 1 SCLK (in) "Serial data shift clock", 2 SIN (in) "Serial data input", 3 MODE (in) "Input mode-change pin. When MODE = GND, the device is in GS mode. When MODE = VCC, the device is in DC mode.", 4 OUT0 (out) "Constant-current output. Multiple outputs can be configured in parallel to increase the constant-current capability. Different voltages can be applied to each output.", 5 OUT1 (out) "Constant-current output", 6 OUT2 (out) "Constant-current output", 7 OUT3 (out) "Constant-current output", 8 OUT4 (out) "Constant-current output", 9 OUT5 (out) "Constant-current output", 10 OUT6 (out) "Constant-current output", 11 OUT7 (out) "Constant-current output", 12 NC "No connection", 13 NC "No connection", 14 OUT8 (out) "Constant-current output", 15 OUT9 (out) "Constant-current output", 16 OUT10 (out) "Constant-current output", 17 OUT11 (out) "Constant-current output", 18 OUT12 (out) "Constant-current output", 19 OUT13 (out) "Constant-current output", 20 OUT14 (out) "Constant-current output", 21 OUT15 (out) "Constant-current output", 22 XERR (hiz) "Error output. XERR is an open-drain terminal. XERR goes low when LOD or TEF is detected.", 23 SOUT (out) "Serial data output", 24 GSCLK (in) "Reference clock for grayscale PWM control", 25 TEST (in) "Test pin: TEST must be connected to VCC", 26 IREF (in) "Reference current terminal. The maximum current for the outputs OUT0-OUT15 is set with a resistor from IREF to GND. Any capacitance does not need to be connected between IREF and GND.", 27 VCC (power) "Power-supply voltage", 28 NC "No connection", 29 NC "No connection", 30 GND (power) "Ground", 31 BLANK (in) "Blank all outputs. When BLANK is high, all OUTn outputs are forced OFF. GS counter is also reset. When BLANK is low, OUTn are controlled by the grayscale PWM control.", 32 XLAT (in) "Level triggered latch signal. When XLAT is high, the TLC59401 writes data from the input shift register to either GS register (MODE is low) or DC register (MODE is high). When XLAT is low, the data in the GS or DC registers (See Datasheet)", 33 EP

## TLC5941RHBRG4
designator U?
16-Channel LED Driver with DOT Correction and Grayscale PWM Control, 3 to 5.5 V, -40 to 85 degC, 32-pin QFN (RHB32), Green (RoHS & no Sb/Br); Manufacturer: Texas Instruments; PartNumber: TLC5941RHBRG4; Rating: Catalog; Vin(Max)(V): 5.5; Vin(Min)(V): 3; DatasheetVersion: SLVS589D; PackageVersion: 4204326/D; PackageReference: RHB32-3150X3150TP; PackageDescription: 32-Pin Plastic Flat Pack, Body 5 x 5 mm, Pitch 0.5 mm; Supplier 1: Digi-Key; Supplier Part Number 1: TLC5941RHBRG4-ND; Supplier 2: Mouser; Supplier Part Number 2: 595-TLC5941RHBRG4; Eco-Plan: Green (RoHS & no Sb/Br); SubFamily: LED Driver; Mounting Technology: Surface Mount; Code_JEDEC: MO-220; ComponentLink1Description: Manufacturer URL; ComponentLink1URL: http://www.ti.com/; ComponentLink2Description: Datasheet; ComponentLink2URL: http://www.ti.com/general/docs/lit/getliterature.tsp?genericPartNumber=TLC5941&fileType=pdf; ComponentLink3Description: Package Specification; ComponentLink3URL: http://www.ti.com/lit/ml/mpqf130c/mpqf130c.pdf
footprint TI-RHB32-3150X3150TP_V (QFN, 32-Leads, Body 5x5mm, Pitch 0.5mm, Thermal Pad 3.15x3.15mm)
pins: 1 SCLK (in) "Serial data shift clock", 2 SIN (in) "Serial data input", 3 MODE (in) "Input mode-change pin. When MODE = GND, the device is in GS mode. When MODE = VCC, the device is in DC mode.", 4 OUT0 (out) "Constant-current output. Multiple outputs can be configured in parallel to increase the constant-current capability. Different voltages can be applied to each output.", 5 OUT1 (out) "Constant-current output", 6 OUT2 (out) "Constant-current output", 7 OUT3 (out) "Constant-current output", 8 OUT4 (out) "Constant-current output", 9 OUT5 (out) "Constant-current output", 10 OUT6 (out) "Constant-current output", 11 OUT7 (out) "Constant-current output", 12 NC "No connection", 13 NC "No connection", 14 OUT8 (out) "Constant-current output", 15 OUT9 (out) "Constant-current output", 16 OUT10 (out) "Constant-current output", 17 OUT11 (out) "Constant-current output", 18 OUT12 (out) "Constant-current output", 19 OUT13 (out) "Constant-current output", 20 OUT14 (out) "Constant-current output", 21 OUT15 (out) "Constant-current output", 22 XERR (hiz) "Error output. XERR is an open-drain terminal. XERR goes low when LOD or TEF is detected.", 23 SOUT (out) "Serial data output", 24 GSCLK (in) "Reference clock for grayscale PWM control", 25 TEST (in) "Test pin: TEST must be connected to VCC", 26 IREF (in) "Reference current terminal. The maximum current for the outputs OUT0-OUT15 is set with a resistor from IREF to GND. Any capacitance does not need to be connected between IREF and GND.", 27 VCC (power) "Power-supply voltage", 28 NC "No connection", 29 NC "No connection", 30 GND (power) "Ground", 31 BLANK (in) "Blank all outputs. When BLANK is high, all OUTn outputs are forced OFF. GS counter is also reset. When BLANK is low, OUTn are controlled by the grayscale PWM control.", 32 XLAT (in) "Level triggered latch signal. When XLAT is high, the TLC59401 writes data from the input shift register to either GS register (MODE is low) or DC register (MODE is high). When XLAT is low, the data in the GS or DC registers (See Datasheet)", 33 EP

## TLC5941RHBT
designator U?
16-Channel LED Driver with DOT Correction and Grayscale PWM Control, 3 to 5.5 V, -40 to 85 degC, 32-pin QFN (RHB32), Green (RoHS & no Sb/Br); Manufacturer: Texas Instruments; PartNumber: TLC5941RHBT; Rating: Catalog; Vin(Max)(V): 5.5; Vin(Min)(V): 3; DatasheetVersion: SLVS589D; PackageVersion: 4204326/D; PackageReference: RHB32-3150X3150TP; PackageDescription: 32-Pin Plastic Flat Pack, Body 5 x 5 mm, Pitch 0.5 mm; Supplier 1: Digi-Key; Supplier Part Number 1: 296-21105-2-ND; Supplier 2: Digi-Key; Supplier Part Number 2: 296-21105-1-ND; Supplier 3: Digi-Key; Supplier Part Number 3: 296-21105-6-ND; Supplier 4: Newark; Supplier Part Number 4: 69K0617; Supplier 5: Mouser; Supplier Part Number 5: 595-TLC5941RHBT; Eco-Plan: Green (RoHS & no Sb/Br); SubFamily: LED Driver; Mounting Technology: Surface Mount; Code_JEDEC: MO-220; ComponentLink1Description: Manufacturer URL; ComponentLink1URL: http://www.ti.com/; ComponentLink2Description: Datasheet; ComponentLink2URL: http://www.ti.com/general/docs/lit/getliterature.tsp?genericPartNumber=TLC5941&fileType=pdf; ComponentLink3Description: Package Specification; ComponentLink3URL: http://www.ti.com/lit/ml/mpqf130c/mpqf130c.pdf
footprint TI-RHB32-3150X3150TP_V (QFN, 32-Leads, Body 5x5mm, Pitch 0.5mm, Thermal Pad 3.15x3.15mm)
pins: 1 SCLK (in) "Serial data shift clock", 2 SIN (in) "Serial data input", 3 MODE (in) "Input mode-change pin. When MODE = GND, the device is in GS mode. When MODE = VCC, the device is in DC mode.", 4 OUT0 (out) "Constant-current output. Multiple outputs can be configured in parallel to increase the constant-current capability. Different voltages can be applied to each output.", 5 OUT1 (out) "Constant-current output", 6 OUT2 (out) "Constant-current output", 7 OUT3 (out) "Constant-current output", 8 OUT4 (out) "Constant-current output", 9 OUT5 (out) "Constant-current output", 10 OUT6 (out) "Constant-current output", 11 OUT7 (out) "Constant-current output", 12 NC "No connection", 13 NC "No connection", 14 OUT8 (out) "Constant-current output", 15 OUT9 (out) "Constant-current output", 16 OUT10 (out) "Constant-current output", 17 OUT11 (out) "Constant-current output", 18 OUT12 (out) "Constant-current output", 19 OUT13 (out) "Constant-current output", 20 OUT14 (out) "Constant-current output", 21 OUT15 (out) "Constant-current output", 22 XERR (hiz) "Error output. XERR is an open-drain terminal. XERR goes low when LOD or TEF is detected.", 23 SOUT (out) "Serial data output", 24 GSCLK (in) "Reference clock for grayscale PWM control", 25 TEST (in) "Test pin: TEST must be connected to VCC", 26 IREF (in) "Reference current terminal. The maximum current for the outputs OUT0-OUT15 is set with a resistor from IREF to GND. Any capacitance does not need to be connected between IREF and GND.", 27 VCC (power) "Power-supply voltage", 28 NC "No connection", 29 NC "No connection", 30 GND (power) "Ground", 31 BLANK (in) "Blank all outputs. When BLANK is high, all OUTn outputs are forced OFF. GS counter is also reset. When BLANK is low, OUTn are controlled by the grayscale PWM control.", 32 XLAT (in) "Level triggered latch signal. When XLAT is high, the TLC59401 writes data from the input shift register to either GS register (MODE is low) or DC register (MODE is high). When XLAT is low, the data in the GS or DC registers (See Datasheet)", 33 EP

## TLC5941RHBTG4
designator U?
16-Channel LED Driver with DOT Correction and Grayscale PWM Control, 3 to 5.5 V, -40 to 85 degC, 32-pin QFN (RHB32), Green (RoHS & no Sb/Br); Manufacturer: Texas Instruments; PartNumber: TLC5941RHBTG4; Rating: Catalog; Vin(Max)(V): 5.5; Vin(Min)(V): 3; DatasheetVersion: SLVS589D; PackageVersion: 4204326/D; PackageReference: RHB32-3150X3150TP; PackageDescription: 32-Pin Plastic Flat Pack, Body 5 x 5 mm, Pitch 0.5 mm; Supplier 1: Digi-Key; Supplier Part Number 1: TLC5941RHBTG4-ND; Supplier 2: Mouser; Supplier Part Number 2: 595-TLC5941RHBTG4; Eco-Plan: Green (RoHS & no Sb/Br); SubFamily: LED Driver; Mounting Technology: Surface Mount; Code_JEDEC: MO-220; ComponentLink1Description: Manufacturer URL; ComponentLink1URL: http://www.ti.com/; ComponentLink2Description: Datasheet; ComponentLink2URL: http://www.ti.com/general/docs/lit/getliterature.tsp?genericPartNumber=TLC5941&fileType=pdf; ComponentLink3Description: Package Specification; ComponentLink3URL: http://www.ti.com/lit/ml/mpqf130c/mpqf130c.pdf
footprint TI-RHB32-3150X3150TP_V (QFN, 32-Leads, Body 5x5mm, Pitch 0.5mm, Thermal Pad 3.15x3.15mm)
pins: 1 SCLK (in) "Serial data shift clock", 2 SIN (in) "Serial data input", 3 MODE (in) "Input mode-change pin. When MODE = GND, the device is in GS mode. When MODE = VCC, the device is in DC mode.", 4 OUT0 (out) "Constant-current output. Multiple outputs can be configured in parallel to increase the constant-current capability. Different voltages can be applied to each output.", 5 OUT1 (out) "Constant-current output", 6 OUT2 (out) "Constant-current output", 7 OUT3 (out) "Constant-current output", 8 OUT4 (out) "Constant-current output", 9 OUT5 (out) "Constant-current output", 10 OUT6 (out) "Constant-current output", 11 OUT7 (out) "Constant-current output", 12 NC "No connection", 13 NC "No connection", 14 OUT8 (out) "Constant-current output", 15 OUT9 (out) "Constant-current output", 16 OUT10 (out) "Constant-current output", 17 OUT11 (out) "Constant-current output", 18 OUT12 (out) "Constant-current output", 19 OUT13 (out) "Constant-current output", 20 OUT14 (out) "Constant-current output", 21 OUT15 (out) "Constant-current output", 22 XERR (hiz) "Error output. XERR is an open-drain terminal. XERR goes low when LOD or TEF is detected.", 23 SOUT (out) "Serial data output", 24 GSCLK (in) "Reference clock for grayscale PWM control", 25 TEST (in) "Test pin: TEST must be connected to VCC", 26 IREF (in) "Reference current terminal. The maximum current for the outputs OUT0-OUT15 is set with a resistor from IREF to GND. Any capacitance does not need to be connected between IREF and GND.", 27 VCC (power) "Power-supply voltage", 28 NC "No connection", 29 NC "No connection", 30 GND (power) "Ground", 31 BLANK (in) "Blank all outputs. When BLANK is high, all OUTn outputs are forced OFF. GS counter is also reset. When BLANK is low, OUTn are controlled by the grayscale PWM control.", 32 XLAT (in) "Level triggered latch signal. When XLAT is high, the TLC59401 writes data from the input shift register to either GS register (MODE is low) or DC register (MODE is high). When XLAT is low, the data in the GS or DC registers (See Datasheet)", 33 EP

## TLC5942PWP
designator U?
16-Channel 12-Bit PWM with 7-Bit DOT Correction, 3 to 5.5 V, -40 to 85 degC, 28-pin SOP (PWP28), Green (RoHS & no Sb/Br); Manufacturer: Texas Instruments; PartNumber: TLC5942PWP; Rating: Catalog; SubFamily: LED Driver; Vin(Max)(V): 5.5; Vin(Min)(V): 3; DatasheetVersion: SBVS096B; PackageVersion: 4073225-6/I; PackageReference: PWP28-5720X1950TP; PackageDescription: 28-Pin Plastic Small Outline, Body 4.4 x 9.7 mm, Pitch 0.65 mm; Supplier 1: Digi-Key; Supplier Part Number 1: 296-22868-5-ND; Supplier 2: Newark; Supplier Part Number 2: 62M0439; Supplier 3: Mouser; Supplier Part Number 3: 595-TLC5942PWP; Eco-Plan: Green (RoHS & no Sb/Br); Mounting Technology: Surface Mount; Code_JEDEC: MO-153; ComponentLink1Description: Manufacturer URL; ComponentLink1URL: http://www.ti.com/; ComponentLink2Description: Datasheet; ComponentLink2URL: http://www.ti.com/general/docs/lit/getliterature.tsp?genericPartNumber=TLC5942&fileType=pdf; ComponentLink3Description: Package Specification; ComponentLink3URL: http://www.ti.com/litv/pdf/mpds373
footprint TI-PWP28-5720X1950TP_N (SOP, 28-Leads, Body 9.7x4.4mm, Pitch 0.65mm, Thermal Pad 5.72 x 1.95mm, IPC Medium Density)
footprint TI-PWP28-5720X1950TP_L (SOP, 28-Leads, Body 9.7x4.4mm, Pitch 0.65mm, Thermal Pad 5.72 x 1.95mm, IPC High Density)
footprint TI-PWP28-5720X1950TP_M (SOP, 28-Leads, Body 9.7x4.4mm, Pitch 0.65mm, Thermal Pad 5.72 x 1.95mm, IPC Low Density)
pins: 1 GND (power) "Power ground", 2 DCSCLK (in) "Serial data shift clock for dot correction. Data present on the DCSIN pin are shifted into the dot correction shift register with each rising edge of the DCSCLK pin. Data are shifted into the LSB of the register with each (See Datasheet)", 3 DCSIN (in) "Serial data input for Dot Correction.", 4 GSSCLK (in) "Serial data shift clock for grayscale and reference clock for Grayscale PWM control. Data present on the GSSIN pin are shifted into the Grayscale Shift Register with each rising edge of the GSSCLK pin. Data are shifted into (See Datasheet)", 5 GSSIN (in) "Serial data input for grayscale.", 6 XGSLAT (in) "Data in the shift register are moved to the grayscale data latch with a low-to-high transition of this pin.", 7 OUT7 (out) "Constant current output", 8 OUT6 (out) "Constant current output", 9 OUT5 (out) "Constant current output", 10 OUT4 (out) "Constant current output", 11 OUT3 (out) "Constant current output", 12 OUT2 (out) "Constant current output", 13 OUT1 (out) "Constant current output", 14 OUT0 (out) "Constant current output", 15 OUT8 (out) "Constant current output", 16 OUT9 (out) "Constant current output", 17 OUT10 (out) "Constant current output", 18 OUT11 (out) "Constant current output", 19 OUT12 (out) "Constant current output", 20 OUT13 (out) "Constant current output", 21 OUT14 (out) "Constant current output", 22 OUT15 (out) "Constant current output", 23 BLANK (in) "Blank (all constant current outputs off). When BLANK is high, all constant current outputs (OUT0 through OUT15) are forced off, the Grayscale counter is reset to '0', and the Grayscale PWM timing controller is initialized. (See Datasheet)", 24 GSSOUT (out) "Serial data output for Grayscale/Status information data. This signal is connected to MSB of Grayscale Shift Register.", 25 DCSOUT (out) "Serial data output for dot correction. This signal is connected to the MSB of the Dot Correction Shift Register.", 26 XDCLAT (in) "Data in the shift register are moved to the dot correction data latch with a low-to-high transition of this pin.", 27 IREF (in) "Constant current value setting. OUT0 through OUT15 sink constant current is set to desired value by connecting an external resistor between IREF and GND.", 28 VCC (power) "Power-supply voltage", 29 EP (power) "Example Solder Mask Defined Pad"